# Altium schematic symbol library SCH - MCU - STM32 - ST MICROELECTRONICS STM32F334C(4-6-8)TX LQFP48.SchLib: 1 symbol
Pins are listed as number, name and electrical type; pins without a type are passive.

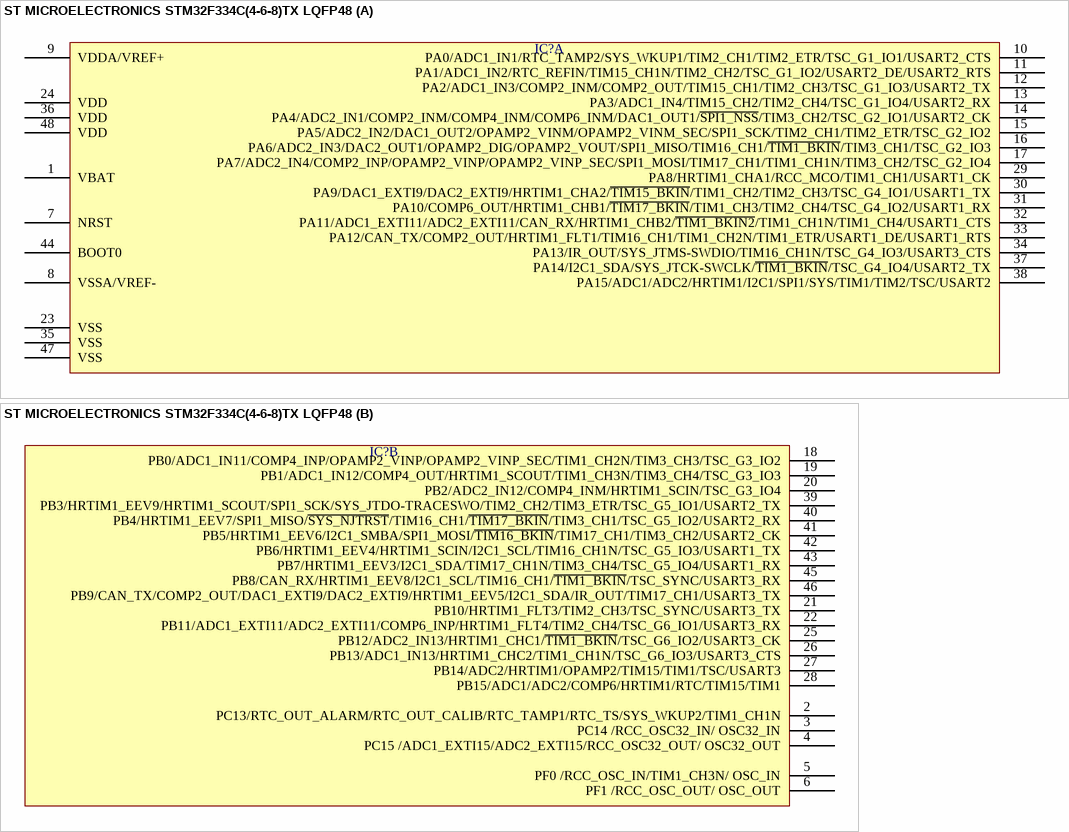
[diagram p0: symbol ST MICROELECTRONICS STM32F334C(4-6-8)TX LQFP48]

## ST MICROELECTRONICS STM32F334C(4-6-8)TX LQFP48
designator IC?  (value not drawn)
part A pins: 1 VBAT, 7 NRST, 8 VSSA/VREF-, 9 VDDA/VREF+, 10 PA0/ADC1_IN1/RTC_TAMP2/SYS_WKUP1/TIM2_CH1/TIM2_ETR/TSC_G1_IO1/USART2_CTS, 11 PA1/ADC1_IN2/RTC_REFIN/TIM15_CH1N/TIM2_CH2/TSC_G1_IO2/USART2_DE/USART2_RTS, 12 PA2/ADC1_IN3/COMP2_INM/COMP2_OUT/TIM15_CH1/TIM2_CH3/TSC_G1_IO3/USART2_TX, 13 PA3/ADC1_IN4/TIM15_CH2/TIM2_CH4/TSC_G1_IO4/USART2_RX, 14 PA4/ADC2_IN1/COMP2_INM/COMP4_INM/COMP6_INM/DAC1_OUT1/~{SPI1_NSS}/TIM3_CH2/TSC_G2_IO1/USART2_CK, 15 PA5/ADC2_IN2/DAC1_OUT2/OPAMP2_VINM/OPAMP2_VINM_SEC/SPI1_SCK/TIM2_CH1/TIM2_ETR/TSC_G2_IO2, 16 PA6/ADC2_IN3/DAC2_OUT1/OPAMP2_DIG/OPAMP2_VOUT/SPI1_MISO/TIM16_CH1/~{TIM1_BKIN}/TIM3_CH1/TSC_G2_IO3, 17 PA7/ADC2_IN4/COMP2_INP/OPAMP2_VINP/OPAMP2_VINP_SEC/SPI1_MOSI/TIM17_CH1/TIM1_CH1N/TIM3_CH2/TSC_G2_IO4, 23 VSS, 24 VDD, 29 PA8/HRTIM1_CHA1/RCC_MCO/TIM1_CH1/USART1_CK, 30 PA9/DAC1_EXTI9/DAC2_EXTI9/HRTIM1_CHA2/~{TIM15_BKIN}/TIM1_CH2/TIM2_CH3/TSC_G4_IO1/USART1_TX, 31 PA10/COMP6_OUT/HRTIM1_CHB1/~{TIM17_BKIN}/TIM1_CH3/TIM2_CH4/TSC_G4_IO2/USART1_RX, 32 PA11/ADC1_EXTI11/ADC2_EXTI11/CAN_RX/HRTIM1_CHB2/~{TIM1_BKIN2}/TIM1_CH1N/TIM1_CH4/USART1_CTS, 33 PA12/CAN_TX/COMP2_OUT/HRTIM1_FLT1/TIM16_CH1/TIM1_CH2N/TIM1_ETR/USART1_DE/USART1_RTS, 34 PA13/IR_OUT/SYS_JTMS-SWDIO/TIM16_CH1N/TSC_G4_IO3/USART3_CTS, 35 VSS, 36 VDD, 37 PA14/I2C1_SDA/SYS_JTCK-SWCLK/~{TIM1_BKIN}/TSC_G4_IO4/USART2_TX, 38 PA15/ADC1/ADC2/HRTIM1/I2C1/SPI1/SYS/TIM1/TIM2/TSC/USART2, 44 BOOT0, 47 VSS, 48 VDD
part B pins: 2 PC13/RTC_OUT_ALARM/RTC_OUT_CALIB/RTC_TAMP1/RTC_TS/SYS_WKUP2/TIM1_CH1N, 3 PC14 /RCC_OSC32_IN/ OSC32_IN, 4 PC15 /ADC1_EXTI15/ADC2_EXTI15/RCC_OSC32_OUT/ OSC32_OUT, 5 PF0 /RCC_OSC_IN/TIM1_CH3N/ OSC_IN, 6 PF1 /RCC_OSC_OUT/ OSC_OUT, 18 PB0/ADC1_IN11/COMP4_INP/OPAMP2_VINP/OPAMP2_VINP_SEC/TIM1_CH2N/TIM3_CH3/TSC_G3_IO2, 19 PB1/ADC1_IN12/COMP4_OUT/HRTIM1_SCOUT/TIM1_CH3N/TIM3_CH4/TSC_G3_IO3, 20 PB2/ADC2_IN12/COMP4_INM/HRTIM1_SCIN/TSC_G3_IO4, 21 PB10/HRTIM1_FLT3/TIM2_CH3/TSC_SYNC/USART3_TX, 22 PB11/ADC1_EXTI11/ADC2_EXTI11/COMP6_INP/HRTIM1_FLT4/TIM2_CH4/TSC_G6_IO1/USART3_RX, 25 PB12/ADC2_IN13/HRTIM1_CHC1/~{TIM1_BKIN}/TSC_G6_IO2/USART3_CK, 26 PB13/ADC1_IN13/HRTIM1_CHC2/TIM1_CH1N/TSC_G6_IO3/USART3_CTS, 27 PB14/ADC2/HRTIM1/OPAMP2/TIM15/TIM1/TSC/USART3, 28 PB15/ADC1/ADC2/COMP6/HRTIM1/RTC/TIM15/TIM1, 39 PB3/HRTIM1_EEV9/HRTIM1_SCOUT/SPI1_SCK/SYS_JTDO-TRACESWO/TIM2_CH2/TIM3_ETR/TSC_G5_IO1/USART2_TX, 40 PB4/HRTIM1_EEV7/SPI1_MISO/~{SYS_NJTRST}/TIM16_CH1/~{TIM17_BKIN}/TIM3_CH1/TSC_G5_IO2/USART2_RX, 41 PB5/HRTIM1_EEV6/I2C1_SMBA/SPI1_MOSI/~{TIM16_BKIN}/TIM17_CH1/TIM3_CH2/USART2_CK, 42 PB6/HRTIM1_EEV4/HRTIM1_SCIN/I2C1_SCL/TIM16_CH1N/TSC_G5_IO3/USART1_TX, 43 PB7/HRTIM1_EEV3/I2C1_SDA/TIM17_CH1N/TIM3_CH4/TSC_G5_IO4/USART1_RX, 45 PB8/CAN_RX/HRTIM1_EEV8/I2C1_SCL/TIM16_CH1/~{TIM1_BKIN}/TSC_SYNC/USART3_RX, 46 PB9/CAN_TX/COMP2_OUT/DAC1_EXTI9/DAC2_EXTI9/HRTIM1_EEV5/I2C1_SDA/IR_OUT/TIM17_CH1/USART3_TX